# Altium footprint library SOT-89.PcbLib: 1 footprints
Each footprint in its own frame and in the unit in brackets; x right, y up, seen from the top. Pads: shape width x height; smd on the part's side, far side on the other; paste and mask are expansions set on the pad; w line width, h text height; cw(c..) or ccw(c..) is an arc to the next point about the centre after c.
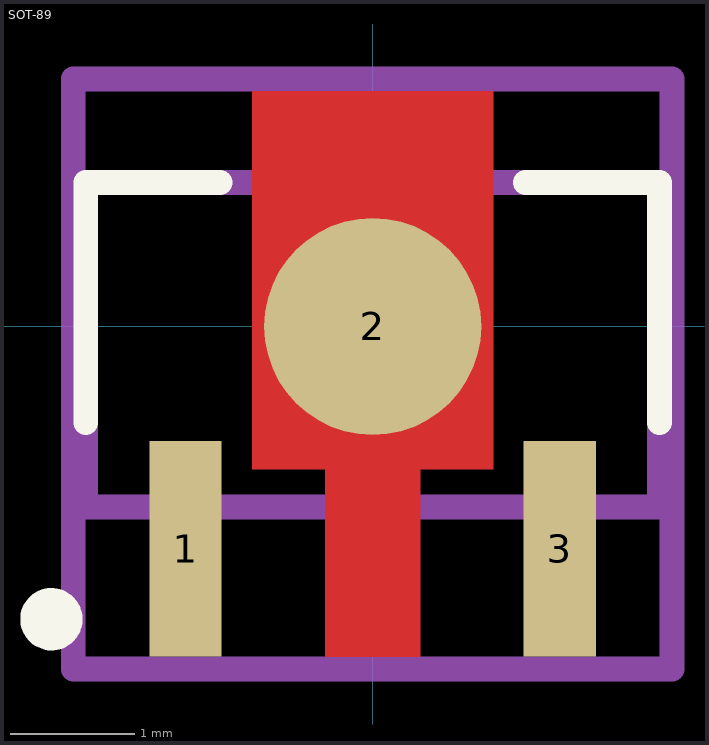
[diagram p0: the footprint, top view; thin cyan lines are the x and y axes]

## SOT-89 [mm]
pads (3):
  rect 0.58x1.73 smd paste+0 mask+0: 1(-1.5,-1.781) 3(1.5,-1.781)
  round 1.74 smd paste+0 mask+0: 2(0,0)
Top Layer:
  region: -0.38,-2.646 -0.38,-1.146 -0.967,-1.146 -0.967,1.884 0.967,1.884 0.967,-1.146 0.38,-1.146 0.38,-2.646
Top Overlay:
  circle w0.25: c-2.575,-2.346 r0.125
  lines w0.2: -2.3,-0.771 -2.3,1.154 -1.225,1.154 ; 1.225,1.154 2.3,1.154 2.3,-0.771
Top Assembly:
  lines w0.2: -2.4,-2.746 -2.4,1.984 2.4,1.984 2.4,-2.746 -2.4,-2.746
  text ".Designator" at 0,-0.193 h1
Top 3D Body:
  lines w0.2: -2.3,-1.446 -2.3,1.154 2.3,1.154 2.3,-1.446 -2.3,-1.446
Top Courtyard:
  lines w0.2: -2.4,-2.746 -2.4,1.984 2.4,1.984 2.4,-2.746 -2.4,-2.746
Top Component Center:
  lines w0.1: -0.5,-0.146 0.5,-0.146 ; 0,-0.646 0,0.354
3D body "IC_Diodes_Inc_AZ1117CR-3_3TRG1_eec.STEP": height 0.25, standoff 0, extent -2.4,-2.746 2.4,1.984